# Altium footprint library PcbLib1.PcbLib: 3 footprints
Each footprint in its own frame and in the unit in brackets; x right, y up, seen from the top. Pads: shape width x height; smd on the part's side, far side on the other; paste and mask are expansions set on the pad; w line width, h text height; cw(c..) or ccw(c..) is an arc to the next point about the centre after c.
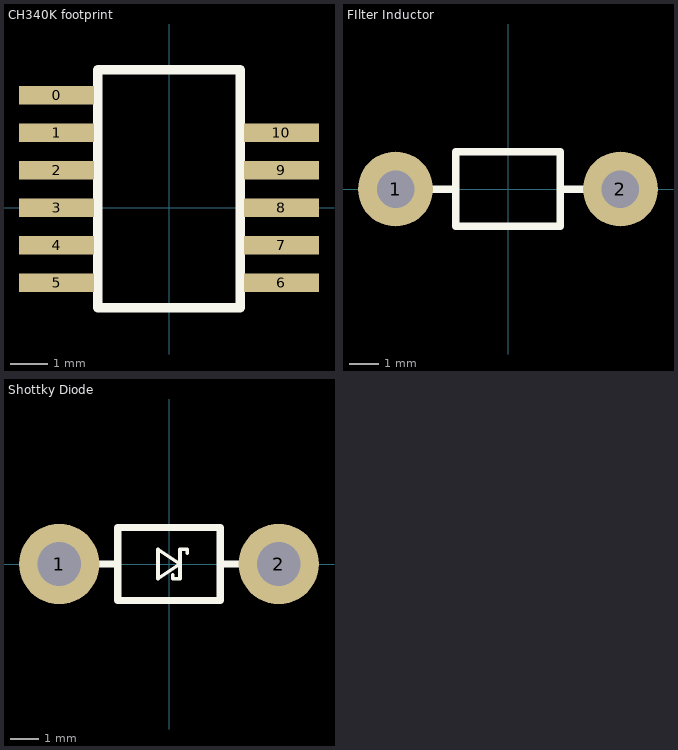
[diagram p0: the footprints below, top view; thin cyan lines are the x and y axes]

## CH340K footprint [mm]
pads (11):
  rect 2x0.5 smd: 0(-3,3) 1(-3,2) 2(-3,1) 3(-3,0) 4(-3,-1) 5(-3,-2) 6(3,-2) 7(3,-1) 8(3,0) 9(3,1) 10(3,2)
Top Overlay:
  lines w0.254: -1.905,-2.667 -1.905,3.683 1.905,3.683 1.905,-2.667 -1.905,-2.667

## FIlter Inductor [mm] "Fastron  77 A-3 R 9 M-00"
height 15.24
pads (2):
  round 2.54 hole 1.27: 1(-3.81,0) 2(3.81,0)
Top Overlay:
  lines w0.254: -3.81,0 -1.778,0 ; 1.778,0 3.81,0 ; -1.778,-1.27 1.778,-1.27 1.778,1.27 -1.778,1.27 -1.778,-1.27

## Shottky Diode [mil] "Diotec 15SQ045"
pads (2):
  round 110 hole 60: 1(-150,0) 2(150,0)
Top Overlay:
  lines w5: 5,-15 5,-20 15,-20 15,0 ; 25,15 25,20 15,20 15,0 ; 15,0 -15,-20 -15,20 15,0
  lines w10: -150,0 -70,0 ; 70,0 150,0 ; -70,-50 -70,50 70,50 70,-50 -70,-50